# EAGLE library part MAX17205 (library chips_old)
Stand-Alone ModelGauge m5 Fuel Gauge with SHA-256 Authentication
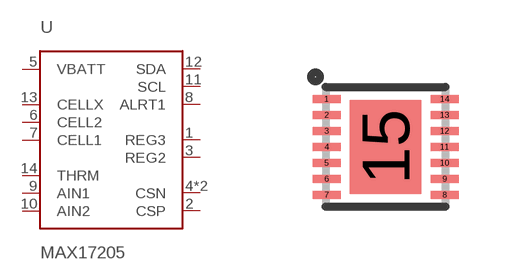
[diagram p72: symbol with the pads of 14-TDFN; footprint 14-TDFN]

Designator prefix U

## MAX17205 (MOUSER: 700-MAX17205G+00E)  [14-TDFN]
1  REG3
2  CSP
3  REG2
4  CSN
5  VBATT
6  CELL2
7  CELL1
8  ALRT1
9  AIN1
10  AIN2
11  SCL
12  SDA
13  CELLX
14  THRM
15  CSN

## Footprint 14-TDFN (pad centres in mm)
smd 0.7 x 0.2: 1 -1.475,1.2; 2 -1.475,0.8; 3 -1.475,0.4; 4 -1.475,0; 5 -1.475,-0.4; 6 -1.475,-0.8; 7 -1.475,-1.2; 8 1.475,-1.2; 9 1.475,-0.8; 10 1.475,-0.4; 11 1.475,0; 12 1.475,0.4; 13 1.475,0.8; 14 1.475,1.2
smd 1.78 x 2.35: 15 0,0